# Altium schematic symbol library H-Bridge_Test.SCHLIB: 5 symbols
Pins are listed as number, name and electrical type; pins without a type are passive.

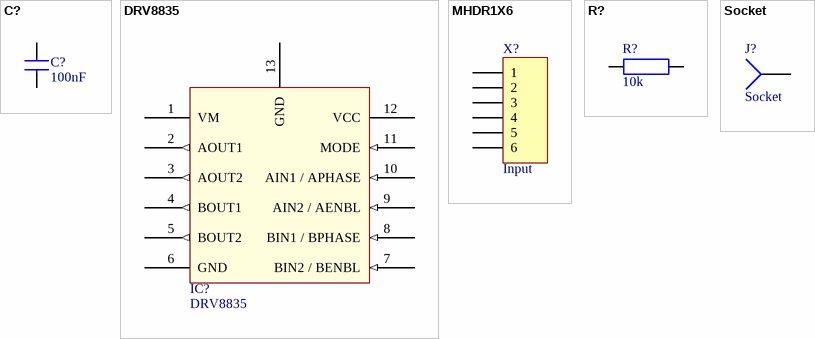
[diagram p0: symbols C? to Socket]

## C?
designator C?, comment 100nF
Normaler Kondensator
pins: 1, 2

## DRV8835
designator IC?
footprint PCBComponent_1
pins: 1 VM (power), 2 AOUT1 (out), 3 AOUT2 (out), 4 BOUT1 (out), 5 BOUT2 (out), 6 GND (power), 7 BIN2 / BENBL (in), 8 BIN1 / BPHASE (in), 9 AIN2 / AENBL (in), 10 AIN1 / APHASE (in), 11 MODE (in), 12 VCC (power), 13 GND (power)

## MHDR1X6
designator X?, comment Input
Header, 6-Pin; LatestRevisionDate: 17-Jul-2002; LatestRevisionNote: Re-released for DXP Platform.; Publisher: Altium Limited
footprint MHDR1X6 (Connector; Header; 6 Position)
signal-integrity model Connector
pins: 1, 2, 3, 4, 5, 6

## R?
designator R?, comment 10k
Normaler Widerstand
pins: 1, 2

## Socket
designator J?
LatestRevisionDate: 17-Jul-2002; LatestRevisionNote: Re-released for DXP Platform.; Publisher: Altium Limited
footprint PIN1 (Connector; Socket)
signal-integrity model Connector
pins: 1